# Altium footprint library 4.Diodes.PcbLib: 30 footprints (part 2 of 2)
Each footprint in its own frame and in the unit in brackets; x right, y up, seen from the top. Pads: shape width x height; smd on the part's side, far side on the other; paste and mask are expansions set on the pad; w line width, h text height; cw(c..) or ccw(c..) is an arc to the next point about the centre after c.
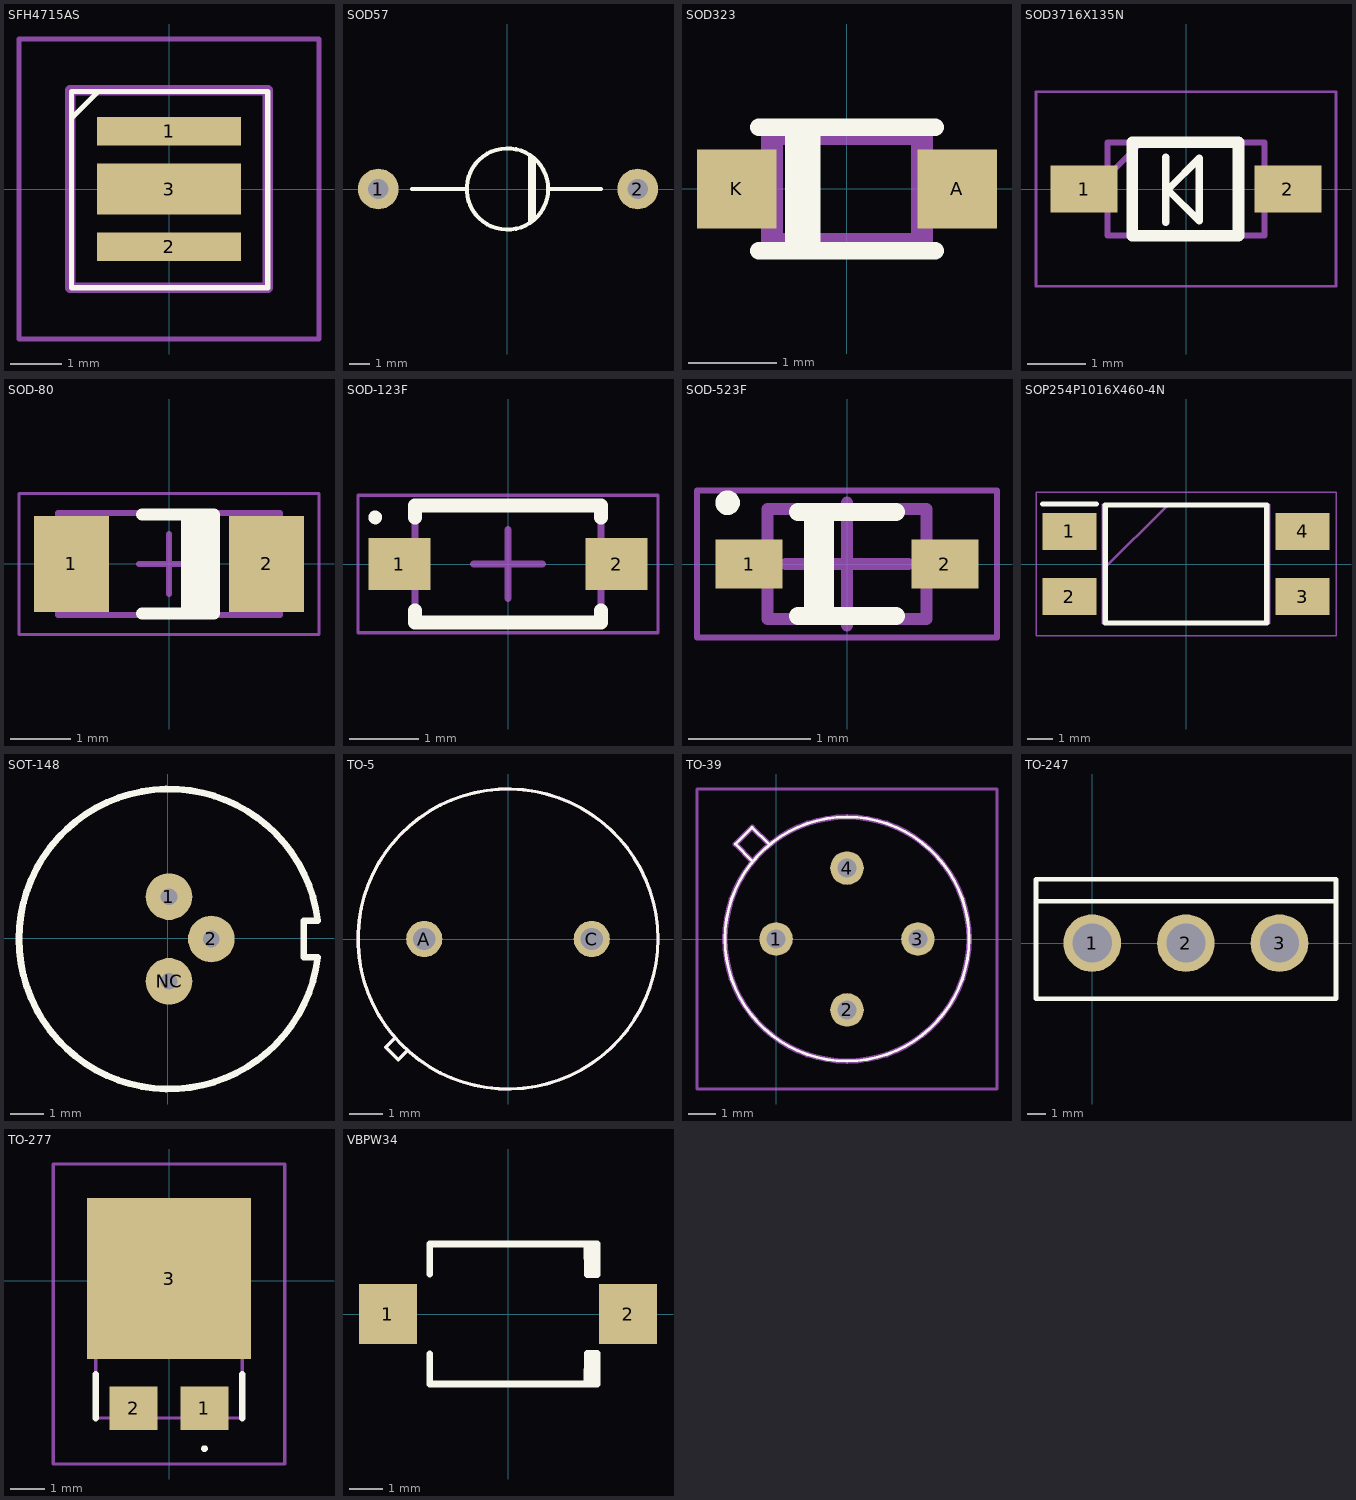
[diagram p1: the footprints below, top view; thin cyan lines are the x and y axes]

## SFH4715AS [mm] "3.85x3.85 mm"
pads (3):
  rect 2.8x0.55 smd: 1(0,1.125) 2(0,-1.125)
  rect 2.8x1 smd: 3(0,0)
Top Overlay:
  lines w0.1: -1.895,1.383 -1.378,1.9 ; -1.9,-1.925 1.925,-1.925 1.925,1.9 -1.9,1.9 -1.9,-1.925
Mechanical 13:
  lines w0.2: -1.925,-1.925 1.925,-1.925 1.925,1.925 -1.925,1.925 -1.925,-1.925
Mechanical 15:
  lines w0.1: -2.925,-2.925 2.925,-2.925 2.925,2.925 -2.925,2.925 -2.925,-2.925
3D body "SFH4715AS.stp": height 2.1, standoff 0, extent -1.925,-1.925 1.925,1.925

## SOD57 [mm]
pads (2):
  round 2 hole 1: 1(-6.35,0) 2(6.4,0)
Top Overlay:
  circle w0.2: c0,0 r2
  lines w0.2: -4.7,0 -2,0 ; 1.1,-1.6 1.1,1.6 1.2,-1.6 1.3,-1.5 1.3,1.5 1.2,1.5 ; 2,0 4.6,0
3D body "User Library-Diodo 1N5060 (Pitch 500mils).step": height 4.8, standoff -4, extent -6.76,-1.8 6.76,1.796

## SOD323 [mm] "SOD-323, cathode-line"
height 1.1
pads (2):
  rect 0.9x0.9 smd: A(1.25,0) K(-1.25,0)
Top Overlay:
  lines w0.2: -1,-0.7 1,-0.7 ; -1,0.7 1,0.7
  lines w0.4: -0.5,-0.6 -0.5,0.6
Mechanical 1:
  lines w0.25: -0.85,-0.625 -0.85,0.625 ; -0.845,-0.625 0.845,-0.625 ; -0.845,0.625 0.845,0.625 ; 0.85,-0.625 0.85,0.625
  text "+" at 0.25,0.625 h4
3D body "User Library-SOD323-1.step": height 1.1, standoff 0, extent -1.3,-0.675 1.3,0.675

## SOD3716X135N [mm]
pads (2):
  rect 1.15x0.8 smd: 1(-1.75,0) 2(1.75,0)
Top Overlay:
  lines w0.127: -0.35,-0.575 -0.35,0.55 ; -0.3,-0.025 0.225,-0.55 0.225,0.525 -0.3,0
  lines w0.2: -0.925,-0.8 -0.3,-0.8 0.9,-0.8 0.9,0.8 -0.925,0.8 -0.925,-0.8 ; -0.925,-0.8 -0.925,-0.8
Mechanical 13:
  lines w0.1: -1.345,0.225 -0.77,0.8 ; -1.345,-0.8 1.345,-0.8 1.345,0.8 -1.345,0.8 -1.345,-0.8
Mechanical 15:
  lines w0.05: -2.575,-1.67 2.575,-1.67 2.575,1.67 -2.575,1.67 -2.575,-1.67
3D body "MBR0540.stp": height 1.35, standoff 0, extent -1.855,-0.8 1.855,0.8

## SOD-80 [mm] "MELF Diode, 2-Leads, Body 3,50x1,65mm, IPC Medium Density"
height 1.7
pads (2):
  rect 1.25x1.6 smd: 1(-1.625,0) 2(1.625,0)
Top Overlay:
  region: 0.752,0.825 0.202,0.825 0.202,-0.825 0.752,-0.825
  lines w0.2: -0.448,-0.825 0.752,-0.825 0.752,0.825 -0.448,0.825
Mechanical 13:
  lines w0.1: -1.85,-0.85 1.85,-0.85 1.85,0.85 -1.85,0.85 -1.85,-0.85
Mechanical 15:
  lines w0.05: -2.5,-1.175 2.5,-1.175 2.5,1.175 -2.5,1.175 -2.5,-1.175
  lines w0.1: -0.5,0 0.5,0 ; 0,-0.5 0,0.5
3D body "User Library-MiniMelf-2.step": height 1.6, standoff 0, extent -1.85,-0.7 1.85,0.9

## SOD-123F [mm] "SODFL, 2-Leads, Body 1.60x3.50mm, IPC Medium Density"
height 1.2
pads (2):
  rect 0.9x0.75 smd: 1(-1.575,0) 2(1.575,0)
Top Overlay:
  circle w0.1: c-1.925,0.675 r0.05
  lines w0.2: -1.35,-0.675 -1.35,-0.85 1.35,-0.85 1.35,-0.675 ; -1.35,0.675 -1.35,0.85 1.35,0.85 1.35,0.675
Mechanical 13:
  lines w0.1: -1.35,-0.85 1.35,-0.85 1.35,0.85 -1.35,0.85 -1.35,-0.85
Mechanical 15:
  lines w0.05: -2.175,-1 2.175,-1 2.175,1 -2.175,1 -2.175,-1
  lines w0.1: -0.5,0 0.5,0 ; 0,-0.5 0,0.5
3D body "SODFL350X120-2N.step": height 1.2, standoff 0, extent -1.75,-0.85 1.75,0.85

## SOD-523F [mm] "SODFL, 2-Leads, Body 0.80x1.60mm, IPC Medium Density"
height 0.7
pads (2):
  rect 0.55x0.4 smd: 1(-0.8,0) 2(0.8,0)
Top Overlay:
  circle w0.1: c-0.975,0.5 r0.05
  lines w0.15: -0.4,-0.425 0.4,-0.425 ; -0.4,0.425 0.4,0.425 ; -0.275,-0.4 -0.275,0.4 ; -0.181,-0.381 -0.181,0.419
Mechanical 13:
  lines w0.1: -0.65,-0.45 -0.65,0.45 0.65,0.45 0.65,-0.45 -0.65,-0.45
Mechanical 15:
  lines w0.05: -1.225,-0.6 -1.225,0.6 1.225,0.6 1.225,-0.6 -1.225,-0.6
  lines w0.1: -0.5,0 0.5,0 ; 0,-0.5 0,0.5
3D body "SODFL160X70-2N.step": height 0.7, standoff 0, extent -0.8,-0.45 0.8,0.45

## SOP254P1016X460-4N [mm]
pads (4):
  rect 2.1x1.45 smd: 1(-4.55,1.27) 2(-4.55,-1.27) 3(4.55,-1.27) 4(4.55,1.27)
Top Overlay:
  lines w0.2: -5.6,2.345 -3.5,2.345 ; -3.15,-2.3 3.15,-2.3 3.15,2.3 -3.15,2.3 -3.15,-2.3
Mechanical 13:
  lines w0.1: -3.25,-0.24 -0.71,2.3 ; -3.25,-2.3 3.25,-2.3 3.25,2.3 -3.25,2.3 -3.25,-2.3
Mechanical 15:
  lines w0.05: -5.85,-2.8 5.85,-2.8 5.85,2.8 -5.85,2.8 -5.85,-2.8
3D body "LTV-817S.stp": height 3.85, standoff 0, extent -5.079,-2.303 5.081,2.297

## SOT-148 [mm] "BGM-laser"
pads (3):
  round 1.4 hole 0.5: 1(0.03,1.245) 2(1.3,-0.025) NC(0.03,-1.295)
Top Overlay:
  lines w0.2: 4.477,-0.573 4.077,-0.573 4.077,0.523 4.477,0.523 ; 4.496,-0.573 cw(c0.03,-0.025) 4.496,0.523
3D body "Лазер_Эльфолюм.STEP": height 5, standoff -3, extent -4.5,-4.488 4.472,4.488

## TO-5 [mm]
pads (2):
  round 1.1 hole 0.67: A(-2.54,0) C(2.54,0)
Top Overlay:
  circle w0.1: c0,0 r4.55
  lines w0.1: -3.429,-3.007 -3.71,-3.288 -3.332,-3.666 -3.049,-3.383
Mechanical 13:
  circle w0.1: c0,0 r4.55
  lines w0.1: -3.431,-3 -3.712,-3.281 -3.334,-3.659 -3.051,-3.376
3D body "BPW21R.stp": height 17.42, standoff 0.12, extent -4.667,-4.627 4.527,4.567

## TO-39 [mm] "4-pin"
pads (4):
  round 1.2 hole 0.69: 1(0,0) 2(2.54,-2.54) 3(5.08,0) 4(2.54,2.54)
Top Overlay:
  lines w0.1: -0.86,2.8 -1.46,3.4 -0.86,4 -0.26,3.4 ; -1.833,0 ccw(c2.54,0) 6.913,0 ccw(c2.54,0) -1.833,0
Mechanical 13:
  lines w0.2: -0.86,2.8 -1.46,3.4 -0.86,4 -0.26,3.4 ; -1.833,0 ccw(c2.54,0) 6.913,0 ccw(c2.54,0) -1.833,0
Mechanical 15:
  lines w0.1: -2.833,-5.373 -2.833,5.373 7.913,5.373 7.913,-5.373 -2.833,-5.373
3D body "MLX90614ESF-BAA-000-TU.stp": height 4.17, standoff -12.93, extent -2.017,-4.56 7.097,4.55

## TO-247 [mm]
pads (3):
  round 3.125 hole 2.125: 1(0,0) 2(5.08,0) 3(10.16,0)
Top Overlay:
  lines w0.254: -3.05,2.275 -3.05,-3 -3.025,-3.025 13.225,-3.025 13.225,2.275 ; -3.05,2.275 13.225,2.275 ; -3.05,2.275 -3.05,3.475 13.225,3.475 13.225,2.275
3D body "User Library-TO247.STEP": height 29.16, standoff -12.75, extent -3.038,-3.017 13.222,2.283

## TO-277 [mm]
pads (3):
  rect 1.4x1.27 smd: 1(1.04,-3.74) 2(-1.04,-3.74)
  rect 4.8x4.72 smd: 3(0,0.065)
Top Overlay:
  lines w0.1: 1.04,-4.975 cw(c1.04,-4.925) 1.04,-4.875 cw(c1.04,-4.925) 1.04,-4.975
  lines w0.2: -2.15,-4.025 -2.15,-2.754 ; 2.15,-4.025 2.15,-2.754
Mechanical 13:
  lines w0.1: -2.15,-4.025 2.15,-4.025 2.15,2.075 -2.15,2.075 -2.15,-4.025
Mechanical 15:
  lines w0.1: -3.4,-5.375 3.4,-5.375 3.4,3.425 -3.4,3.425 -3.4,-5.375
3D body "SS8P6CHM3_A_H.stp": height 1.3, standoff 0, extent -2.15,-4.248 2.15,2.075

## VBPW34 [mm]
pads (2):
  rect 1.75x1.8 smd: 1(-3.6,0) 2(3.6,0)
Top Overlay:
  lines w0.2: -2.345,-2.1 -2.345,-1.2 ; -2.345,1.2 -2.345,2.1 ; -2.325,-2.1 2.675,-2.1 ; -2.325,2.1 2.675,2.1 ; 2.375,-1.2 2.371,-2.067 2.671,-2.067 2.675,-1.2 ; 2.375,-1.18 2.675,-1.18 ; 2.375,1.18 2.675,1.18 ; 2.375,1.2 2.371,2.067 2.671,2.067 2.675,1.2 ; 2.471,-2.05 2.475,-1.2 ; 2.471,2.05 2.475,1.2 ; 2.571,-2.05 2.575,-1.2 ; 2.571,2.05 2.575,1.2
3D body "User Library-bpw34s.step": height 1.22, standoff 0, extent -3.204,-1.95 3.204,1.95